# Altium footprint library M_DRIVER.PcbLib: 1 footprints
Each footprint in its own frame and in the unit in brackets; x right, y up, seen from the top. Pads: shape width x height; smd on the part's side, far side on the other; paste and mask are expansions set on the pad; w line width, h text height; cw(c..) or ccw(c..) is an arc to the next point about the centre after c.
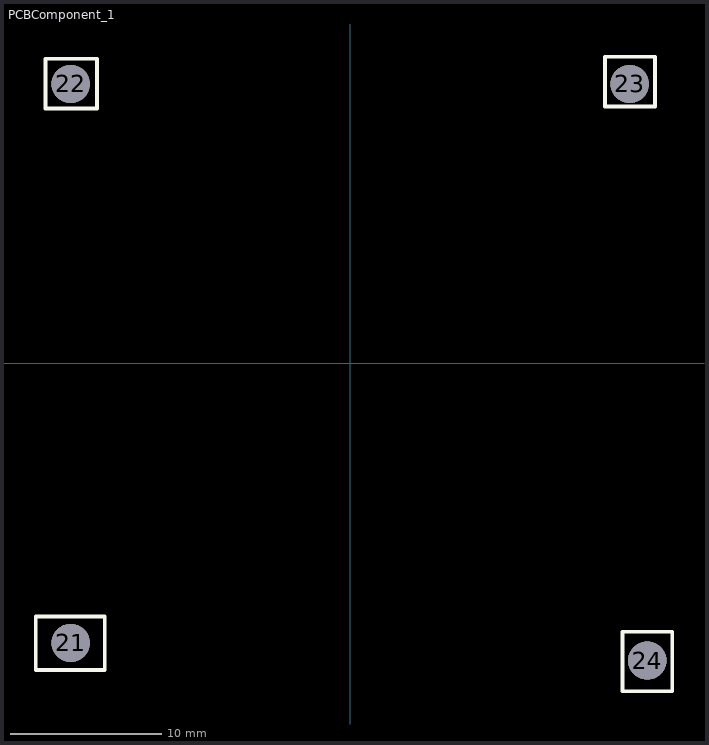
[diagram p0: the footprint, top view; thin cyan lines are the x and y axes]

## PCBComponent_1 [mil]
pads (5):
  round 100 hole 100: 21(-729,-729) 22(-729,729) 23(729,729) 24(775,-775) ""(775,-775)
Top Overlay:
  lines w10: -820,-800 -640,-800 -640,-660 -820,-660 -820,-800 ; -795,665 -660,665 -660,795 -795,795 -795,665 ; 665,670 795,670 795,800 665,800 665,670 ; 710,-855 840,-855 840,-700 710,-700 710,-855